# Altium integrated library MCU-M95M02-DRMN6TP_SOIC8_.IntLib: 1 symbol
Pins are listed as number, name and electrical type; pins without a type are passive.

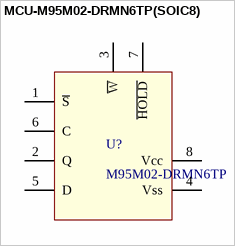
[diagram p0: symbol MCU-M95M02-DRMN6TP(SOIC8)]

## MCU-M95M02-DRMN6TP(SOIC8)
designator U?, comment M95M02-DRMN6TP
EEPROM Memory IC 2Mb _256K x 8_ SPI 5MHz 8-SO; MF: STMicroelectronics; SnapEDA_Link: https://www.snapeda.com/parts/M95M02-DRMN6TP/STMicroelectronics/view-part/105756/?ref=snap; Availability: Unavailable; MP: M95M02-DRMN6TP; Value: M95M02-DRMN6TP; Price: None; Package: SOIC-8 STMicroelectronics
footprint SOIC8-1.27-5X4MM
pins: 1 ~{S}, 2 Q, 3 ~{W}, 4 Vss, 5 D, 6 C, 7 ~{HOLD}, 8 Vcc